# Altium schematic symbol library 野火_H750X_H743X_底板_V1.0_原理图封装库_AD格式.SchLib: 104 symbols
Pins are listed as number, name and electrical type; pins without a type are passive.

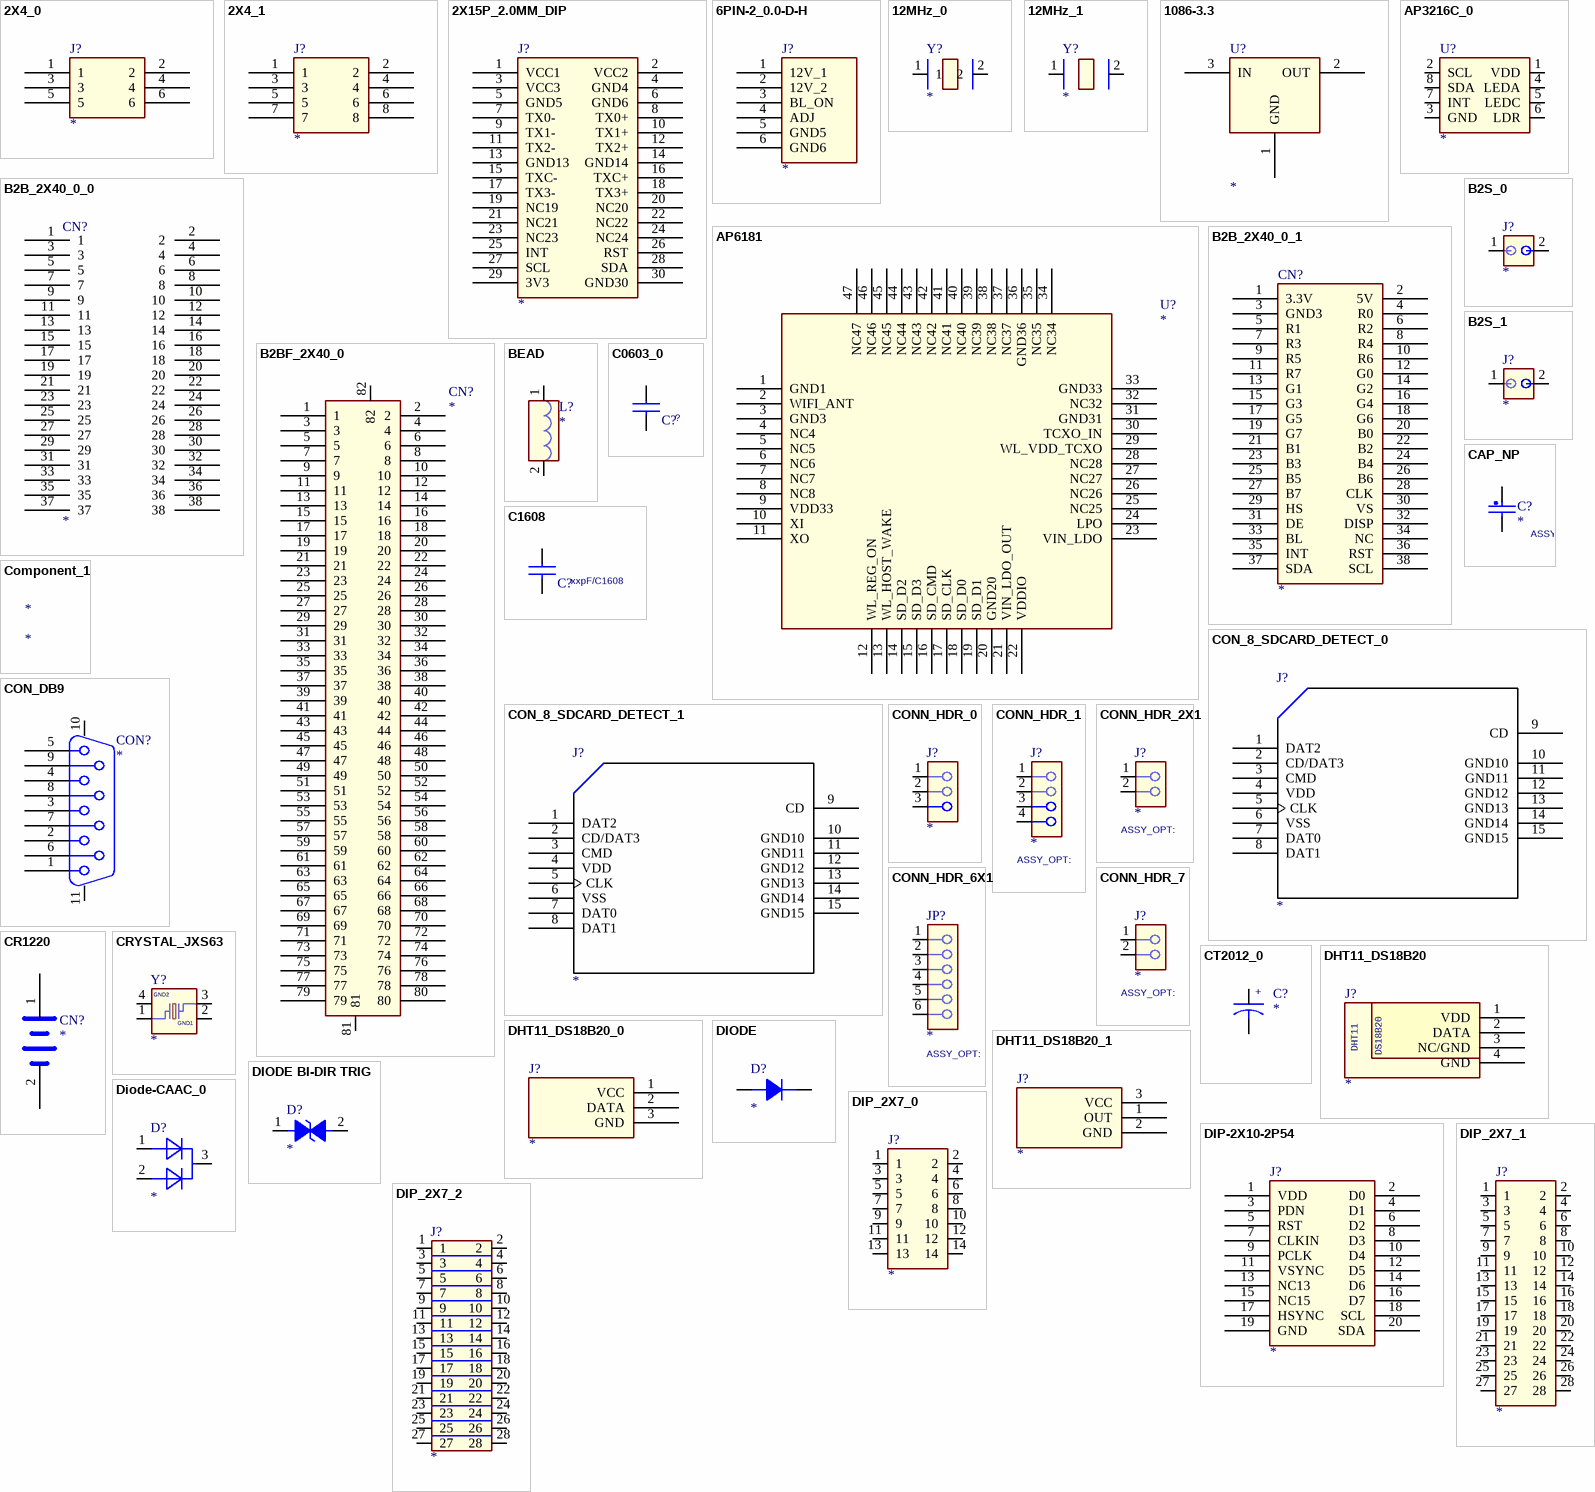
[diagram p0: symbols 2X4_0 to DIP_2X7_2]

## 2X4_0
designator J?
footprint 2X4_2P54
pins: 1, 2, 3, 4, 5, 6

## 2X4_1
designator J?
footprint 2X4_2P54
pins: 1, 2, 3, 4, 5, 6, 7, 8

## 2X15P_2.0MM_DIP
designator J?
footprint 2X15P_2.0MM_DIP
pins: 1 VCC1, 2 VCC2, 3 VCC3, 4 GND4, 5 GND5, 6 GND6, 7 TX0-, 8 TX0+, 9 TX1-, 10 TX1+, 11 TX2-, 12 TX2+, 13 GND13, 14 GND14, 15 TXC-, 16 TXC+, 17 TX3-, 18 TX3+, 19 NC19, 20 NC20, 21 NC21, 22 NC22, 23 NC23, 24 NC24, 25 INT, 26 RST, 27 SCL, 28 SDA, 29 3V3, 30 GND30

## 6PIN-2_0.0-D-H
designator J?
footprint SIP6_2P0
pins: 1 12V_1, 2 12V_2, 3 BL_ON, 4 ADJ, 5 GND5, 6 GND6

## 12MHz_0
designator Y?
footprint XTAL_DIP
pins: 1, 2

## 12MHz_1
designator Y?
footprint XTAL_DIP
pins: 1, 2

## 1086-3.3
designator U?
footprint TO252-2
pins: 1 GND, 2 OUT, 3 IN

## AP3216C_0
designator U?
footprint AP3216C
pins: 1 VDD, 2 SCL, 3 GND, 4 LEDA, 5 LEDC, 6 LDR, 7 INT, 8 SDA

## AP6181
designator U?
pins: 1 GND1, 2 WIFI_ANT, 3 GND3, 4 NC4, 5 NC5, 6 NC6, 7 NC7, 8 NC8, 9 VDD33, 10 XI, 11 XO, 12 WL_REG_ON, 13 WL_HOST_WAKE, 14 SD_D2, 15 SD_D3, 16 SD_CMD, 17 SD_CLK, 18 SD_D0, 19 SD_D1, 20 GND20, 21 VIN_LDO_OUT, 22 VDDIO, 23 VIN_LDO, 24 LPO, 25 NC25, 26 NC26, 27 NC27, 28 NC28, 29 WL_VDD_TCXO, 30 TCXO_IN, 31 GND31, 32 NC32, 33 GND33, 34 NC34, 35 NC35, 36 GND36, 37 NC37, 38 NC38, 39 NC39, 40 NC40, 41 NC41, 42 NC42, 43 NC43, 44 NC44, 45 NC45, 46 NC46, 47 NC47

## B2B_2X40_0_0
designator CN?
pins: 1, 2, 3, 4, 5, 6, 7, 8, 9, 10, 11, 12, 13, 14, 15, 16, 17, 18, 19, 20, 21, 22, 23, 24, 25, 26, 27, 28, 29, 30, 31, 32, 33, 34, 35, 36, 37, 38

## B2B_2X40_0_1
designator CN?
pins: 1 3.3V, 2 5V, 3 GND3, 4 R0, 5 R1, 6 R2, 7 R3, 8 R4, 9 R5, 10 R6, 11 R7, 12 G0, 13 G1, 14 G2, 15 G3, 16 G4, 17 G5, 18 G6, 19 G7, 20 B0, 21 B1, 22 B2, 23 B3, 24 B4, 25 B5, 26 B6, 27 B7, 28 CLK, 29 HS, 30 VS, 31 DE, 32 DISP, 33 BL, 34 NC, 35 INT, 36 RST, 37 SDA, 38 SCL

## B2BF_2X40_0
designator CN?
pins: 1, 2, 3, 4, 5, 6, 7, 8, 9, 10, 11, 12, 13, 14, 15, 16, 17, 18, 19, 20, 21, 22, 23, 24, 25, 26, 27, 28, 29, 30, 31, 32, 33, 34, 35, 36, 37, 38, 39, 40, 41, 42, 43, 44, 45, 46, 47, 48, 49, 50, 51, 52, 53, 54, 55, 56, 57, 58, 59, 60, 61, 62, 63, 64, 65, 66, 67, 68, 69, 70, 71, 72, 73, 74, 75, 76, 77, 78, 79, 80, 81, 82

## B2S_0
designator J?
pins: 1 (io), 2

## B2S_1
designator J?
pins: 1, 2

## BEAD
designator L?
CLASS: DISCRETE
pins: 1, 2

## C0603_0
designator C?, comment ?
footprint C0603
pins: 1, 2

## C1608
designator C?, comment xxpF/C1608
footprint C1608
pins: 1, 2

## CAP_NP
designator C?
CLASS: DISCRETE
pins: 1, 2

## Component_1
designator *

## CON_8_SDCARD_DETECT_0
designator J?
CLASS: IO
pins: 1 DAT2, 2 CD/DAT3, 3 CMD, 4 VDD (power), 5 CLK, 6 VSS (power), 7 DAT0, 8 DAT1, 9 CD, 10 GND10 (power), 11 GND11 (power), 12 GND12, 13 GND13, 14 GND14, 15 GND15

## CON_8_SDCARD_DETECT_1
designator J?
CLASS: IO
pins: 1 DAT2, 2 CD/DAT3, 3 CMD, 4 VDD (power), 5 CLK, 6 VSS (power), 7 DAT0, 8 DAT1, 9 CD, 10 GND10, 11 GND11, 12 GND12, 13 GND13, 14 GND14, 15 GND15

## CON_DB9
designator CON?
footprint DB9
pins: 1, 2, 3, 4, 5, 6, 7, 8, 9, 10, 11

## CONN_HDR_0
designator J?
CLASS: IO
pins: 1, 2, 3

## CONN_HDR_1
designator J?
CLASS: IO
pins: 1, 2, 3, 4

## CONN_HDR_2X1
designator J?
CLASS: IO
pins: 1, 2

## CONN_HDR_6X1
designator JP?
CLASS: IO
pins: 1, 2, 3, 4, 5, 6

## CONN_HDR_7
designator J?
CLASS: IO
pins: 1, 2

## CR1220
designator CN?
footprint CR1220
pins: 1 BAT, 2 GND

## CRYSTAL_JXS63
designator Y?
CLASS: IC
pins: 1, 2 GND1 (power), 3, 4 GND2 (power)

## CT2012_0
designator C?
footprint T2012
pins: 1, 2
text: +

## DHT11_DS18B20
designator J?
pins: 1 VDD, 2 DATA, 3 NC/GND, 4 GND
text: DHT11; DS18B20

## DHT11_DS18B20_0
designator J?
pins: 1 VCC, 2 DATA, 3 GND

## DHT11_DS18B20_1
designator J?
pins: 1 OUT, 2 GND, 3 VCC

## DIODE
designator D?
pins: 1 A, 2 K

## DIODE BI-DIR TRIG
designator D?
footprint D0603/SMD
pins: 1, 2

## Diode-CAAC_0
designator D?
pins: 1, 2, 3

## DIP-2X10-2P54
designator J?
footprint DIP-2X10-2P54
pins: 1 VDD, 2 D0, 3 PDN, 4 D1, 5 RST, 6 D2, 7 CLKIN, 8 D3, 9 PCLK, 10 D4, 11 VSYNC, 12 D5, 13 NC13, 14 D6, 15 NC15, 16 D7, 17 HSYNC, 18 SCL, 19 GND, 20 SDA

## DIP_2X7_0
designator J?
footprint DIP_2X7_2P54
pins: 1, 2, 3, 4, 5, 6, 7, 8, 9, 10, 11, 12, 13, 14

## DIP_2X7_1
designator J?
footprint DIP_2X7_2P54
pins: 1, 2, 3, 4, 5, 6, 7, 8, 9, 10, 11, 12, 13, 14, 15, 16, 17, 18, 19, 20, 21, 22, 23, 24, 25, 26, 27, 28

## DIP_2X7_2
designator J?
footprint DIP_2X7_2P54
pins: 1, 2, 3, 4, 5, 6, 7, 8, 9, 10, 11, 12, 13, 14, 15, 16, 17, 18, 19, 20, 21, 22, 23, 24, 25, 26, 27, 28

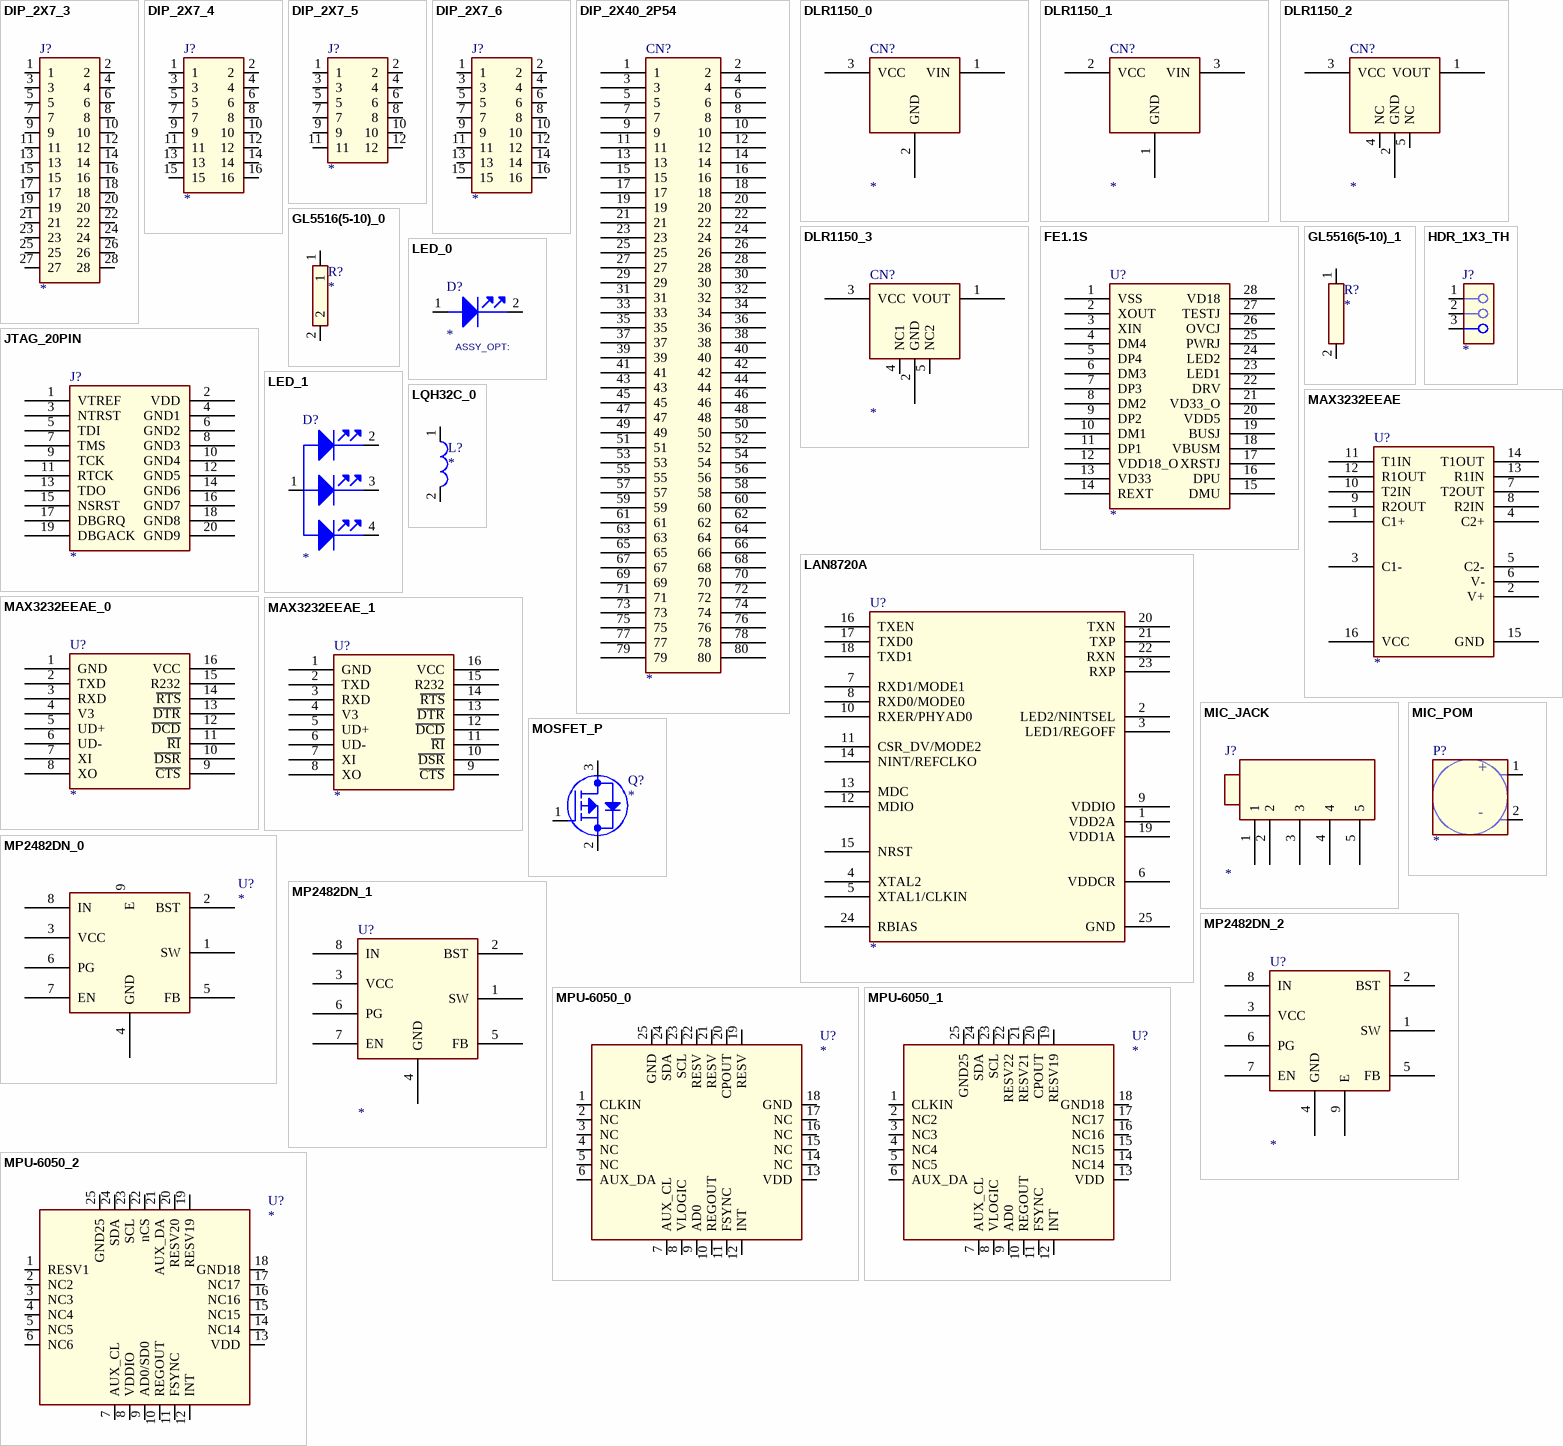
[diagram p1: symbols DIP_2X7_3 to MPU-6050_2]

## DIP_2X7_3
designator J?
footprint DIP_2X7_2P54
pins: 1, 2, 3, 4, 5, 6, 7, 8, 9, 10, 11, 12, 13, 14, 15, 16, 17, 18, 19, 20, 21, 22, 23, 24, 25, 26, 27, 28

## DIP_2X7_4
designator J?
footprint DIP_2X7_2P54
pins: 1, 2, 3, 4, 5, 6, 7, 8, 9, 10, 11, 12, 13, 14, 15, 16

## DIP_2X7_5
designator J?
footprint DIP_2X7_2P54
pins: 1, 2, 3, 4, 5, 6, 7, 8, 9, 10, 11, 12

## DIP_2X7_6
designator J?
footprint DIP_2X7_2P54
pins: 1, 2, 3, 4, 5, 6, 7, 8, 9, 10, 11, 12, 13, 14, 15, 16

## DIP_2X40_2P54
designator CN?
pins: 1, 2, 3, 4, 5, 6, 7, 8, 9, 10, 11, 12, 13, 14, 15, 16, 17, 18, 19, 20, 21, 22, 23, 24, 25, 26, 27, 28, 29, 30, 31, 32, 33, 34, 35, 36, 37, 38, 39, 40, 41, 42, 43, 44, 45, 46, 47, 48, 49, 50, 51, 52, 53, 54, 55, 56, 57, 58, 59, 60, 61, 62, 63, 64, 65, 66, 67, 68, 69, 70, 71, 72, 73, 74, 75, 76, 77, 78, 79, 80

## DLR1150_0
designator CN?
footprint DLR1150
pins: 1 VIN, 2 GND, 3 VCC

## DLR1150_1
designator CN?
footprint DLR1150
pins: 1 GND, 2 VCC, 3 VIN

## DLR1150_2
designator CN?
footprint DLR1150
pins: 1 VOUT, 2 GND, 3 VCC, 4 NC, 5 NC

## DLR1150_3
designator CN?
footprint DLR1150
pins: 1 VOUT, 2 GND, 3 VCC, 4 NC1, 5 NC2

## FE1.1S
designator U?
pins: 1 VSS, 2 XOUT, 3 XIN, 4 DM4, 5 DP4, 6 DM3, 7 DP3, 8 DM2, 9 DP2, 10 DM1, 11 DP1, 12 VDD18_O, 13 VD33, 14 REXT, 15 DMU, 16 DPU, 17 XRSTJ, 18 VBUSM, 19 BUSJ, 20 VDD5, 21 VD33_O, 22 DRV, 23 LED1, 24 LED2, 25 PWRJ, 26 OVCJ, 27 TESTJ, 28 VD18

## GL5516(5-10)_0
designator R?
footprint GL5516
pins: 1, 2

## GL5516(5-10)_1
designator R?
footprint GL5516
pins: 1, 2

## HDR_1X3_TH
designator J?
CLASS: IO
pins: 1, 2, 3

## JTAG_20PIN
designator J?
footprint JTAG_20PIN
pins: 1 VTREF, 2 VDD, 3 NTRST, 4 GND1, 5 TDI, 6 GND2, 7 TMS, 8 GND3, 9 TCK, 10 GND4, 11 RTCK, 12 GND5, 13 TDO, 14 GND6, 15 NSRST, 16 GND7, 17 DBGRQ, 18 GND8, 19 DBGACK, 20 GND9

## LAN8720A
designator U?
pins: 1 VDD2A, 2 LED2/NINTSEL, 3 LED1/REGOFF, 4 XTAL2, 5 XTAL1/CLKIN, 6 VDDCR, 7 RXD1/MODE1, 8 RXD0/MODE0, 9 VDDIO, 10 RXER/PHYAD0, 11 CSR_DV/MODE2, 12 MDIO, 13 MDC, 14 NINT/REFCLKO, 15 NRST, 16 TXEN, 17 TXD0, 18 TXD1, 19 VDD1A, 20 TXN, 21 TXP, 22 RXN, 23 RXP, 24 RBIAS, 25 GND

## LED_0
designator D?
CLASS: IC
pins: 1 ANODE, 2 CATHODE

## LED_1
designator D?
CLASS: IC
pins: 1 ANODE, 2 R, 3 G, 4 B

## LQH32C_0
designator L?
footprint LQH32C
pins: 1, 2

## MAX3232EEAE
designator U?
footprint 16
pins: 1 C1+, 2 V+, 3 C1-, 4 C2+, 5 C2-, 6 V-, 7 T2OUT, 8 R2IN, 9 R2OUT, 10 T2IN, 11 T1IN, 12 R1OUT, 13 R1IN, 14 T1OUT, 15 GND (power), 16 VCC (power)

## MAX3232EEAE_0
designator U?
footprint 16
pins: 1 GND, 2 TXD, 3 RXD, 4 V3, 5 UD+, 6 UD-, 7 XI, 8 XO, 9 ~{CTS}, 10 ~{DSR}, 11 ~{RI}, 12 ~{DCD}, 13 ~{DTR}, 14 ~{RTS}, 15 R232 (power), 16 VCC (power)

## MAX3232EEAE_1
designator U?
footprint 16
pins: 1 GND, 2 TXD, 3 RXD, 4 V3, 5 UD+, 6 UD-, 7 XI, 8 XO, 9 ~{CTS}, 10 ~{DSR}, 11 ~{RI}, 12 ~{DCD}, 13 ~{DTR}, 14 ~{RTS}, 15 R232, 16 VCC (power)

## MIC_JACK
designator J?
footprint EAR_JACK
pins: 1, 2, 3, 4, 5

## MIC_POM
designator P?
CLASS: IC
pins: 1 Out, 2 GND
text: +; -

## MOSFET_P
designator Q?
CLASS: IC
pins: 1 GATE, 2 SOURCE, 3 DRAIN

## MP2482DN_0
designator U?
footprint SOIC8E
pins: 1 SW, 2 BST, 3 VCC, 4 GND, 5 FB, 6 PG, 7 EN, 8 IN, 9 E

## MP2482DN_1
designator U?
footprint SOIC8E
pins: 1 SW, 2 BST, 3 VCC, 4 GND, 5 FB, 6 PG, 7 EN, 8 IN, 9 E (power) hidden to E

## MP2482DN_2
designator U?
footprint SOIC8E
pins: 1 SW, 2 BST, 3 VCC, 4 GND, 5 FB, 6 PG, 7 EN, 8 IN, 9 E (power)

## MPU-6050_0
designator U?
footprint QFN24
pins: 1 CLKIN, 2 NC, 3 NC, 4 NC, 5 NC, 6 AUX_DA, 7 AUX_CL, 8 VLOGIC, 9 AD0, 10 REGOUT, 11 FSYNC, 12 INT, 13 VDD, 14 NC, 15 NC, 16 NC, 17 NC, 18 GND, 19 RESV, 20 CPOUT, 21 RESV, 22 RESV, 23 SCL, 24 SDA, 25 GND

## MPU-6050_1
designator U?
footprint QFN24
pins: 1 CLKIN, 2 NC2, 3 NC3, 4 NC4, 5 NC5, 6 AUX_DA, 7 AUX_CL, 8 VLOGIC, 9 AD0, 10 REGOUT, 11 FSYNC, 12 INT, 13 VDD, 14 NC14, 15 NC15, 16 NC16, 17 NC17, 18 GND18, 19 RESV19, 20 CPOUT, 21 RESV21, 22 RESV22, 23 SCL, 24 SDA, 25 GND25

## MPU-6050_2
designator U?
footprint QFN24
pins: 1 RESV1, 2 NC2, 3 NC3, 4 NC4, 5 NC5, 6 NC6, 7 AUX_CL, 8 VDDIO, 9 AD0/SD0, 10 REGOUT, 11 FSYNC, 12 INT, 13 VDD, 14 NC14, 15 NC15, 16 NC16, 17 NC17, 18 GND18, 19 RESV19, 20 RESV20, 21 AUX_DA, 22 nCS, 23 SCL, 24 SDA, 25 GND25

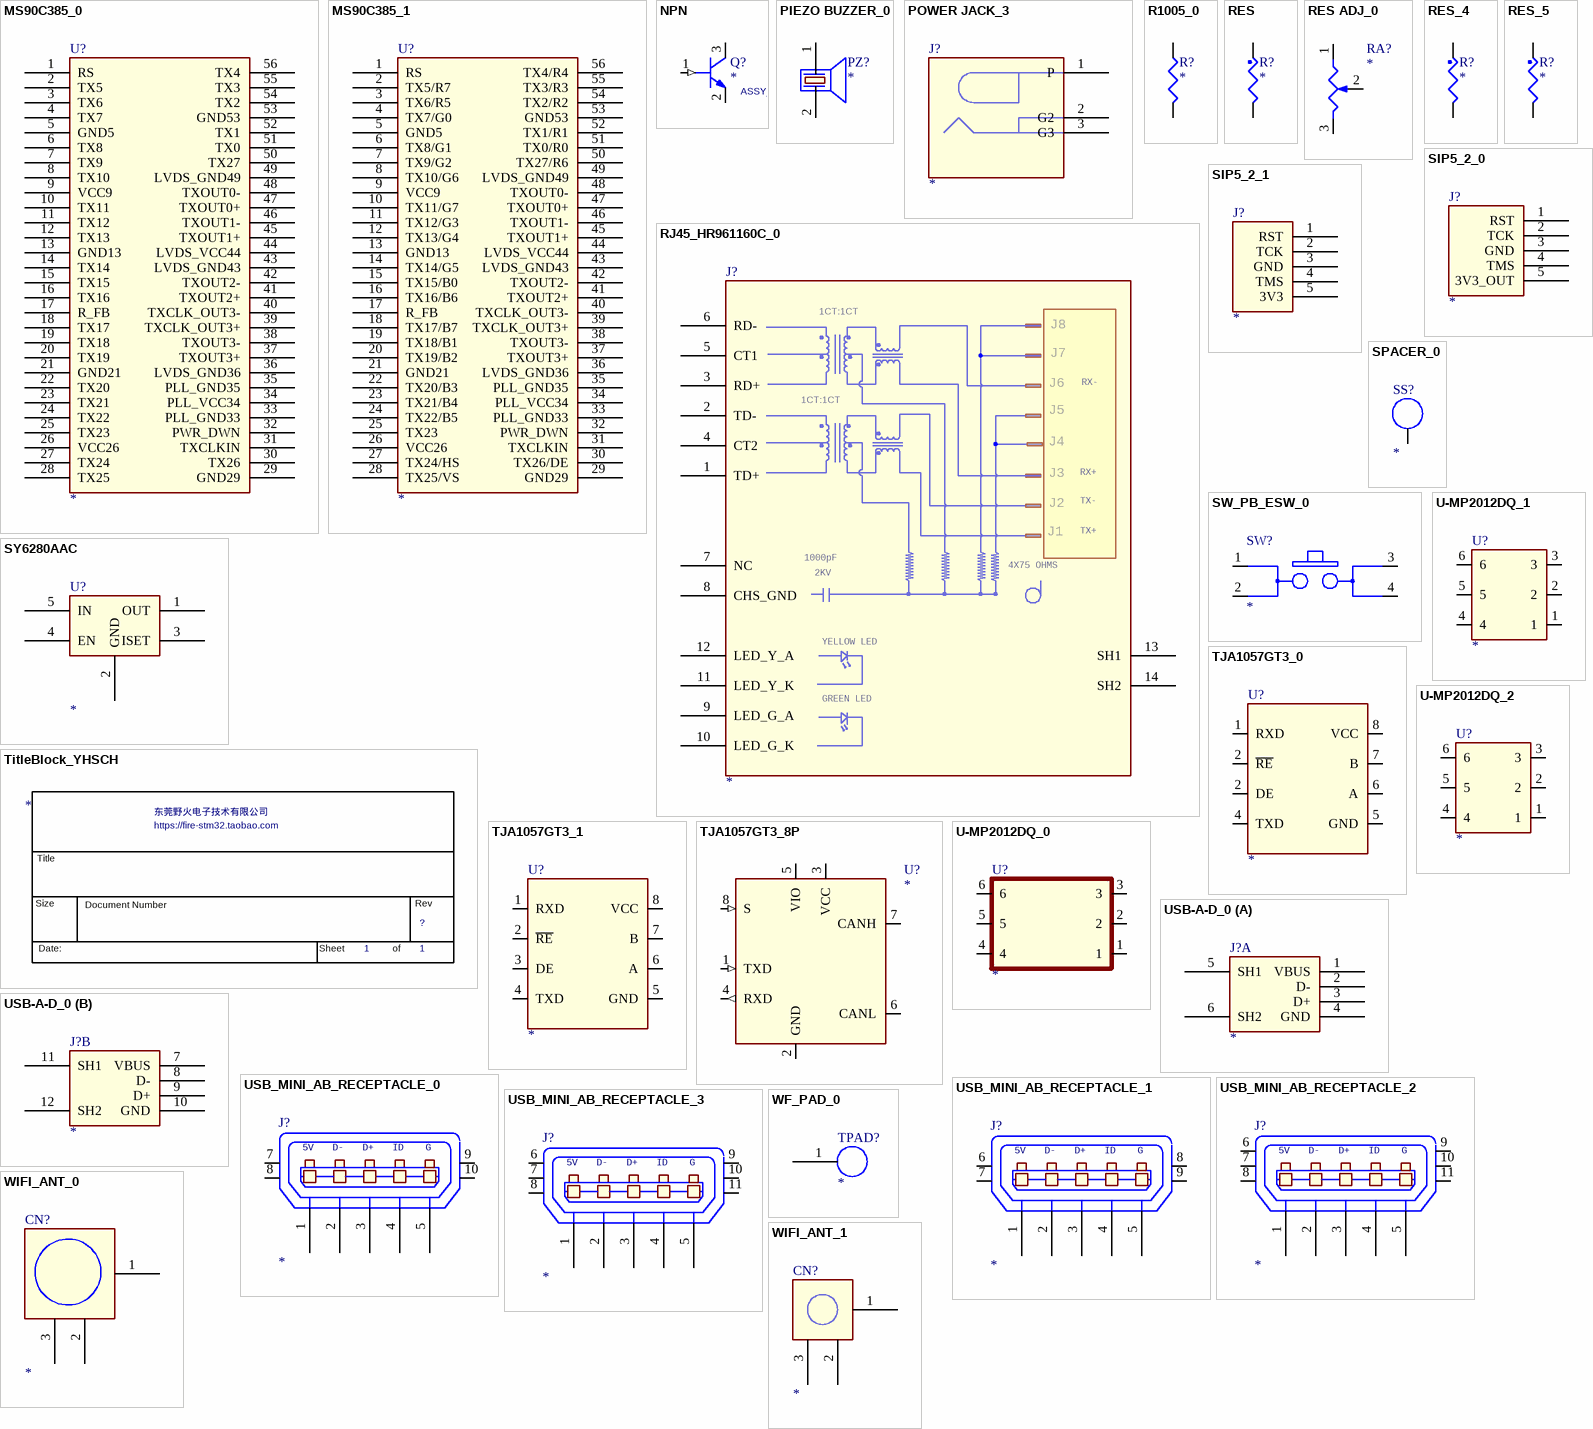
[diagram p2: symbols MS90C385_0 to WIFI_ANT_1]

## MS90C385_0
designator U?
pins: 1 RS, 2 TX5, 3 TX6, 4 TX7, 5 GND5, 6 TX8, 7 TX9, 8 TX10, 9 VCC9, 10 TX11, 11 TX12, 12 TX13, 13 GND13, 14 TX14, 15 TX15, 16 TX16, 17 R_FB, 18 TX17, 19 TX18, 20 TX19, 21 GND21, 22 TX20, 23 TX21, 24 TX22, 25 TX23, 26 VCC26, 27 TX24, 28 TX25, 29 GND29, 30 TX26, 31 TXCLKIN, 32 PWR_DWN, 33 PLL_GND33, 34 PLL_VCC34, 35 PLL_GND35, 36 LVDS_GND36, 37 TXOUT3+, 38 TXOUT3-, 39 TXCLK_OUT3+, 40 TXCLK_OUT3-, 41 TXOUT2+, 42 TXOUT2-, 43 LVDS_GND43, 44 LVDS_VCC44, 45 TXOUT1+, 46 TXOUT1-, 47 TXOUT0+, 48 TXOUT0-, 49 LVDS_GND49, 50 TX27, 51 TX0, 52 TX1, 53 GND53, 54 TX2, 55 TX3, 56 TX4

## MS90C385_1
designator U?
pins: 1 RS, 2 TX5/R7, 3 TX6/R5, 4 TX7/G0, 5 GND5, 6 TX8/G1, 7 TX9/G2, 8 TX10/G6, 9 VCC9, 10 TX11/G7, 11 TX12/G3, 12 TX13/G4, 13 GND13, 14 TX14/G5, 15 TX15/B0, 16 TX16/B6, 17 R_FB, 18 TX17/B7, 19 TX18/B1, 20 TX19/B2, 21 GND21, 22 TX20/B3, 23 TX21/B4, 24 TX22/B5, 25 TX23, 26 VCC26, 27 TX24/HS, 28 TX25/VS, 29 GND29, 30 TX26/DE, 31 TXCLKIN, 32 PWR_DWN, 33 PLL_GND33, 34 PLL_VCC34, 35 PLL_GND35, 36 LVDS_GND36, 37 TXOUT3+, 38 TXOUT3-, 39 TXCLK_OUT3+, 40 TXCLK_OUT3-, 41 TXOUT2+, 42 TXOUT2-, 43 LVDS_GND43, 44 LVDS_VCC44, 45 TXOUT1+, 46 TXOUT1-, 47 TXOUT0+, 48 TXOUT0-, 49 LVDS_GND49, 50 TX27/R6, 51 TX0/R0, 52 TX1/R1, 53 GND53, 54 TX2/R2, 55 TX3/R3, 56 TX4/R4

## NPN
designator Q?
CLASS: IC
pins: 1 BASE (in), 2 EMITTER, 3 COLLECTOR

## PIEZO BUZZER_0
designator PZ?
pins: 1 +, 2 -

## POWER JACK_3
designator J?
pins: 1 P, 2 G2, 3 G3

## R1005_0
designator R?
footprint R1005
pins: 1, 2

## RES
designator R?
CLASS: DISCRETE
pins: 1, 2

## RES ADJ_0
designator RA?
pins: 1, 2, 3

## RES_4
designator R?
pins: 1, 2

## RES_5
designator R?
CLASS: DISCRETE
pins: 1, 2

## RJ45_HR961160C_0
designator J?
CLASS: IO
pins: 1 TD+, 2 TD-, 3 RD+, 4 CT2, 5 CT1, 6 RD-, 7 NC, 8 CHS_GND, 9 LED_G_A, 10 LED_G_K, 11 LED_Y_K, 12 LED_Y_A, 13 SH1, 14 SH2
text: 1CT:1CT; J8; J7; RX-; J6; J5; J4; RX+; J3; TX-; J2; TX+; J1; 1000pF; 4X75 OHMS; 2KV; YELLOW LED; GREEN LED

## SIP5_2_0
designator J?
pins: 1 RST, 2 TCK, 3 GND, 4 TMS, 5 3V3_OUT

## SIP5_2_1
designator J?
pins: 1 RST, 2 TCK, 3 GND, 4 TMS, 5 3V3

## SPACER_0
designator SS?
CLASS: IC
pins: 1 NC_1

## SW_PB_ESW_0
designator SW?
CLASS: IC
pins: 1 A1, 2 A2, 3 B1, 4 B2

## SY6280AAC
designator U?
pins: 1 OUT, 2 GND, 3 ISET, 4 EN, 5 IN

## TitleBlock_YHSCH
designator *  OrgName: 东莞野火电子技术有限公司  Page Number: 1  (graphical)
RevCode: ?; OrgAddr1: https://fire-stm32.taobao.com; Page Count: 1
text: Title; Size; Document Number; Rev; Date:; Sheet; of

## TJA1057GT3_0
designator U?
CLASS: IC
pins: 1 RXD, 2 ~{RE}, 2 DE, 4 TXD, 5 GND, 6 A, 7 B, 8 VCC

## TJA1057GT3_1
designator U?
CLASS: IC
pins: 1 RXD, 2 ~{RE}, 3 DE, 4 TXD, 5 GND, 6 A, 7 B, 8 VCC

## TJA1057GT3_8P
designator U?
CLASS: IC
pins: 1 TXD (in), 2 GND (power), 3 VCC (power), 4 RXD (out), 5 VIO (power), 6 CANL (io), 7 CANH (io), 8 S (in)

## U-MP2012DQ_0
designator U?
footprint QFN6
pins: 1, 2, 3, 4, 5, 6

## U-MP2012DQ_1
designator U?
footprint QFN6
pins: 1, 2, 3, 4, 5, 6

## U-MP2012DQ_2
designator U?
footprint QFN6
pins: 1, 2, 3, 4, 5, 6

## USB-A-D_0
designator J?
footprint USB-A-D
part A pins: 1 VBUS, 2 D-, 3 D+, 4 GND, 5 SH1, 6 SH2
part B pins: 7 VBUS, 8 D-, 9 D+, 10 GND, 11 SH1, 12 SH2

## USB_MINI_AB_RECEPTACLE_0
designator J?
CLASS: IO
pins: 1 P1, 2 P2, 3 P3, 4 P4, 5 P5, 7 SHLD1, 8 SHLD3, 9 SHLD2, 10 SHLD4
text: 5V; D-; D+; ID; G

## USB_MINI_AB_RECEPTACLE_1
designator J?
CLASS: IO
pins: 1 P1, 2 P2, 3 P3, 4 P4, 5 P5, 6 SHLD1, 7 SHLD3, 8 SHLD2, 9 SHLD4
text: 5V; D-; D+; ID; G

## USB_MINI_AB_RECEPTACLE_2
designator J?
CLASS: IO
pins: 1 P1, 2 P2, 3 P3, 4 P4, 5 P5, 6 SHLD1, 7 SHLD3, 8 SHLD2, 9 SHLD4, 10 SHLD5, 11 SHLD6
text: 5V; D-; D+; ID; G

## USB_MINI_AB_RECEPTACLE_3
designator J?
CLASS: IO
pins: 1 P1, 2 P2, 3 P3, 4 P4, 5 P5, 6 SHLD1, 7 SHLD2, 8 SHLD3, 9 SHLD4, 10 SHLD5, 11 SHLD6
text: 5V; D-; D+; ID; G

## WF_PAD_0
designator TPAD?
footprint WF_PAD
pins: 1

## WIFI_ANT_0
designator CN?
footprint UFL-3
pins: 1, 2, 3

## WIFI_ANT_1
designator CN?
footprint UFL-3
pins: 1, 2, 3

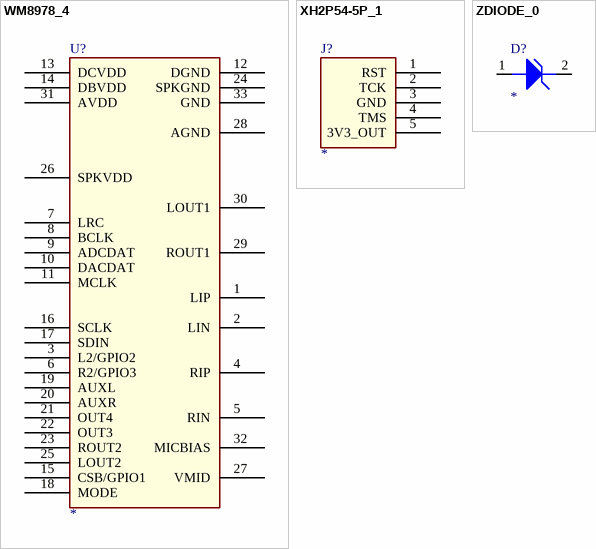
[diagram p3: symbols WM8978_4 to ZDIODE_0]

## WM8978_4
designator U?
footprint QFN32
pins: 1 LIP, 2 LIN, 3 L2/GPIO2, 4 RIP, 5 RIN, 6 R2/GPIO3, 7 LRC, 8 BCLK, 9 ADCDAT, 10 DACDAT, 11 MCLK, 12 DGND, 13 DCVDD, 14 DBVDD, 15 CSB/GPIO1, 16 SCLK, 17 SDIN, 18 MODE, 19 AUXL, 20 AUXR, 21 OUT4, 22 OUT3, 23 ROUT2, 24 SPKGND, 25 LOUT2, 26 SPKVDD, 27 VMID, 28 AGND, 29 ROUT1, 30 LOUT1, 31 AVDD, 32 MICBIAS, 33 GND

## XH2P54-5P_1
designator J?
pins: 1 RST, 2 TCK, 3 GND, 4 TMS, 5 3V3_OUT

## ZDIODE_0
designator D?
CLASS: IC
pins: 1 ANODE, 2 CATHODE